# Altium footprint library PcbLibArduino.PcbLib: 19 footprints (part 2 of 2)
Each footprint in its own frame and in the unit in brackets; x right, y up, seen from the top. Pads: shape width x height; smd on the part's side, far side on the other; paste and mask are expansions set on the pad; w line width, h text height; cw(c..) or ccw(c..) is an arc to the next point about the centre after c.
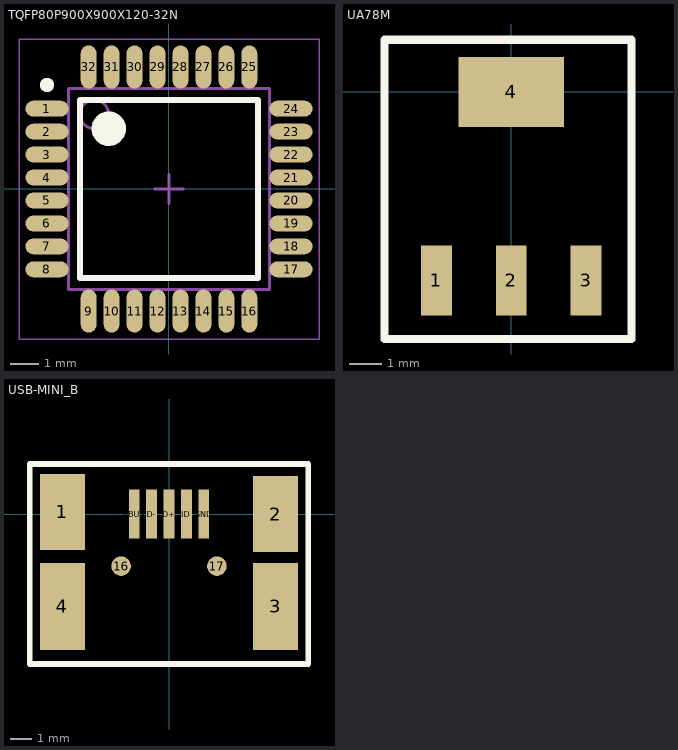
[diagram p1: the footprints below, top view; thin cyan lines are the x and y axes]

## TQFP80P900X900X120-32N [mm] "TQFP, 32-Leads, Body 7.00x7.00mm, Pitch 0.80mm, IPC Medium Density"
height 1.2
pads (32):
  oval 1.5x0.55 smd: 1(-4.25,2.8) 2(-4.25,2) 3(-4.25,1.2) 4(-4.25,0.4) 5(-4.25,-0.4) 6(-4.25,-1.2) 7(-4.25,-2) 8(-4.25,-2.8) 17(4.25,-2.8) 18(4.25,-2) 19(4.25,-1.2) 20(4.25,-0.4) 21(4.25,0.4) 22(4.25,1.2) 23(4.25,2) 24(4.25,2.8)
  oval 0.55x1.5 smd: 9(-2.8,-4.25) 10(-2,-4.25) 11(-1.2,-4.25) 12(-0.4,-4.25) 13(0.4,-4.25) 14(1.2,-4.25) 15(2,-4.25) 16(2.8,-4.25) 25(2.8,4.25) 26(2,4.25) 27(1.2,4.25) 28(0.4,4.25) 29(-0.4,4.25) 30(-1.2,4.25) 31(-2,4.25) 32(-2.8,4.25)
Top Overlay:
  circle w0.6: c-2.1,2.1 r0.3
  circle w0.25: c-4.25,3.625 r0.125
  lines w0.2: -3.1,-3.1 3.1,-3.1 3.1,3.1 -3.1,3.1 -3.1,-3.1
Assembly Top:
  circle w0.1: c-2.6,2.6 r0.5
  lines w0.1: -3.5,-3.5 3.5,-3.5 3.5,3.5 -3.5,3.5 -3.5,-3.5
Courtyard Top:
  lines w0.05: -5.225,-5.225 5.225,-5.225 5.225,5.225 -5.225,5.225 -5.225,-5.225
  lines w0.1: -0.5,0 0.5,0 ; 0,-0.5 0,0.5
3D body "atmega328p-an.stp": height 1.1, standoff 0, extent -4.5,-4.5 4.5,4.5

## UA78M [mm] "UA78M 500-MA, 25-V LINEAR VOLTAG"
pads (4):
  rect 0.95x2.15 smd: 1(-2.3,-5.8) 2(0,-5.8) 3(2.3,-5.8)
  rect 3.25x2.15 smd: 4(0,0)
Top Overlay:
  lines w0.254: -3.9,-7.6 3.7,-7.6 3.7,1.6 -3.9,1.6 -3.9,-7.6
3D body "sot223-4.step": height 1.7, standoff 0.01, extent -3.25,-6.4 3.25,0.6

## USB-MINI_B [mm] "USB - mini B USB 2.0 OTG Receptacle Connector 5 Position Surface Mount, Right Angle"
pads (11):
  rect 2.05x3.5 smd: 1(-4.9,0.1) 2(4.9,0)
  rect 2.05x4 smd: 3(4.9,-4.25) 4(-4.9,-4.25)
  round 0.9 all layers, no hole: 16(-2.2,-2.4) 17(2.2,-2.4)
  rect 0.5x2.25 smd: D+(0,0) D-(-0.8,0) GND(1.6,0) ID(0.8,0) VBUS(-1.6,0)
Top Overlay:
  lines w0.254: -6.4,-6.9 -6.4,2.3 6.4,2.3 6.4,-6.9 -6.4,-6.9
3D body "675031020.stp": height 4, standoff -0.95, extent -4.95,-8.3 4.95,0.7